# Altium integrated library NRF54L15-QFAA-R.IntLib: 1 symbol
Pins are listed as number, name and electrical type; pins without a type are passive.

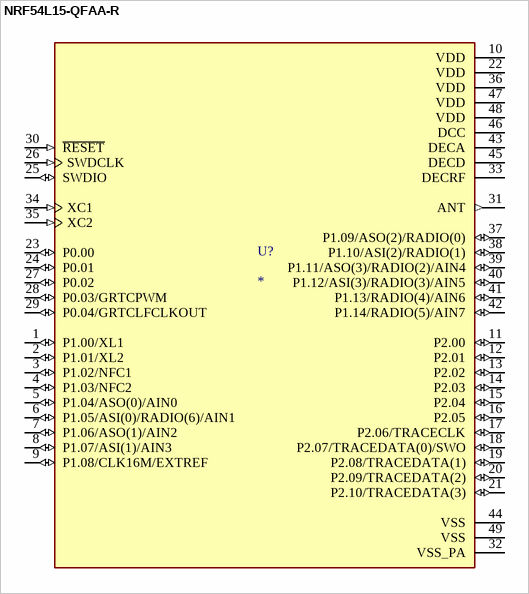
[diagram p0: symbol NRF54L15-QFAA-R]

## NRF54L15-QFAA-R
designator U?
MF: {'manufacturer': u'Nordic Semiconductor ASA'}; MP: NRF54L15-QFAA-R; Package: None; Price: None; Value: *; Availability: Unavailable
footprint QFN40P600X600X90-49N
pins: 1 P1.00/XL1 (io), 2 P1.01/XL2 (io), 3 P1.02/NFC1 (io), 4 P1.03/NFC2 (io), 5 P1.04/ASO(0)/AIN0 (io), 6 P1.05/ASI(0)/RADIO(6)/AIN1 (io), 7 P1.06/ASO(1)/AIN2 (io), 8 P1.07/ASI(1)/AIN3 (io), 9 P1.08/CLK16M/EXTREF (io), 10 VDD (power), 11 P2.00 (io), 12 P2.01 (io), 13 P2.02 (io), 14 P2.03 (io), 15 P2.04 (io), 16 P2.05 (io), 17 P2.06/TRACECLK (io), 18 P2.07/TRACEDATA(0)/SWO (io), 19 P2.08/TRACEDATA(1) (io), 20 P2.09/TRACEDATA(2) (io), 21 P2.10/TRACEDATA(3) (io), 22 VDD (power), 23 P0.00 (io), 24 P0.01 (io), 25 SWDIO (io), 26 SWDCLK (in), 27 P0.02 (io), 28 P0.03/GRTCPWM (io), 29 P0.04/GRTCLFCLKOUT (io), 30 ~{RESET} (in), 31 ANT (out), 32 VSS_PA (power), 33 DECRF (power), 34 XC1 (in), 35 XC2 (in), 36 VDD (power), 37 P1.09/ASO(2)/RADIO(0) (io), 38 P1.10/ASI(2)/RADIO(1) (io), 39 P1.11/ASO(3)/RADIO(2)/AIN4 (io), 40 P1.12/ASI(3)/RADIO(3)/AIN5 (io), 41 P1.13/RADIO(4)/AIN6 (io), 42 P1.14/RADIO(5)/AIN7 (io), 43 DECA (power), 44 VSS (power), 45 DECD (power), 46 DCC (power), 47 VDD (power), 48 VDD (power), 49 VSS (power)